# EAGLE library part MP9495 (library ds_ic_vreg)
High Efficiency 3A, 16V, 500kHz Synchronous Step Down Converter
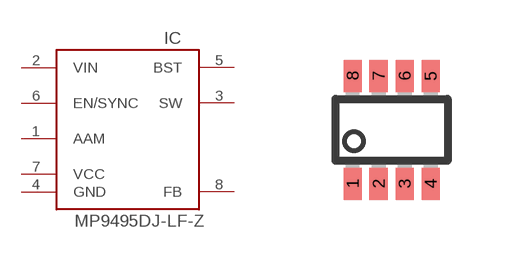
[diagram p10: symbol with the pads of SOT23-8; footprint SOT23-8]

Designator prefix IC

## MP9495  [SOT23-8]
1  AAM
2  VIN
3  SW
4  GND
5  BST
6  EN/SYNC
7  VCC
8  FB

## Footprint SOT23-8 (pad centres in mm)
smd 0.45 x 0.8: 1 -0.975,-1.35; 2 -0.325,-1.35; 3 0.325,-1.35; 4 0.975,-1.35; 5 0.975,1.35; 6 0.325,1.35; 7 -0.325,1.35; 8 -0.975,1.35